# Altium footprint library DIO.PcbLib: 1 footprints
Each footprint in its own frame and in the unit in brackets; x right, y up, seen from the top. Pads: shape width x height; smd on the part's side, far side on the other; paste and mask are expansions set on the pad; w line width, h text height; cw(c..) or ccw(c..) is an arc to the next point about the centre after c.
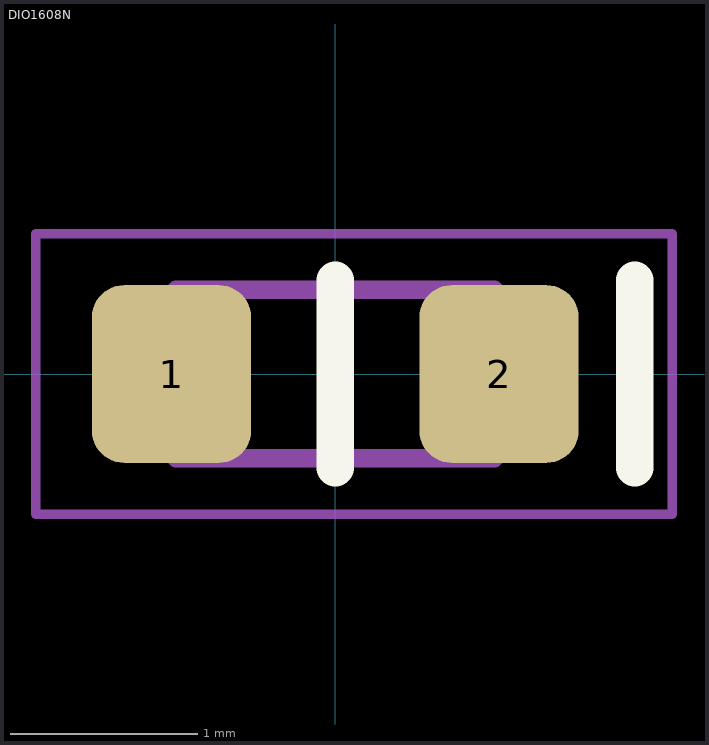
[diagram p0: the footprint, top view; thin cyan lines are the x and y axes]

## DIO1608N [mm] "Chip Diode, 2-Leads, Body 1.60x0.80mm, IPC Medium Density"
height 0.55
pads (2):
  rrect40% 0.85x0.95 smd: 1(-0.875,0) 2(0.875,0)
Top Overlay:
  lines w0.2: 0,-0.5 0,0.5 ; 1.6,-0.5 1.6,0.5
Assembly:
  lines w0.1: -0.85,-0.45 0.85,-0.45 0.85,0.45 -0.85,0.45 -0.85,-0.45
Courtyard:
  lines w0.05: -1.6,-0.75 1.8,-0.75 1.8,0.75 -1.6,0.75 -1.6,-0.75
3D body: height 0.55, standoff 0, extent -0.85,-0.45 0.85,0.45